# Altium schematic symbol library MOUNT_HOLE(BOM).SchLib: 1 symbol
Pins are listed as number, name and electrical type; pins without a type are passive.

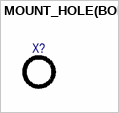
[diagram p0: symbol MOUNT_HOLE(BOM)]

## MOUNT_HOLE(BOM)
designator X?  (value not drawn)
Mount hole символ с добавлением в ВОМ (применяется для стоек)
pins: 1